# Altium schematic symbol library NTD4858N-35G.SchLib: 1 symbol
Pins are listed as number, name and electrical type; pins without a type are passive.

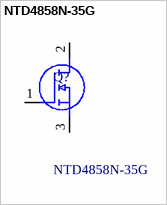
[diagram p0: symbol NTD4858N-35G]

## NTD4858N-35G
designator Q?
MOSFET NFET 25V 73A 0.0062R DPAK; Manufacturer_Name: onsemi; Geometry.Height: 9.59mm; Manufacturer_Part_Number: NTD4858N-35G; Mouser Part Number: 863-NTD4858N-35G; Mouser Price/Stock: https://www.mouser.co.uk/ProductDetail/ON-Semiconductor/NTD4858N-35G?qs=t2BMfLoP1KToQIN0Enz8Jw%3D%3D; Arrow Part Number: NTD4858N-35G; Arrow Price/Stock: https://www.arrow.com/en/products/ntd4858n-35g/on-semiconductor?region=nac; Datasheet Link: https://www.onsemi.com/pub/Collateral/NTD4858N-D.PDF
footprint NTD4858N35G
pins: 1 G, 2 D, 3 S